# Altium footprint library Capacitors.PcbLib: 6 footprints
Each footprint in its own frame and in the unit in brackets; x right, y up, seen from the top. Pads: shape width x height; smd on the part's side, far side on the other; paste and mask are expansions set on the pad; w line width, h text height; cw(c..) or ccw(c..) is an arc to the next point about the centre after c.
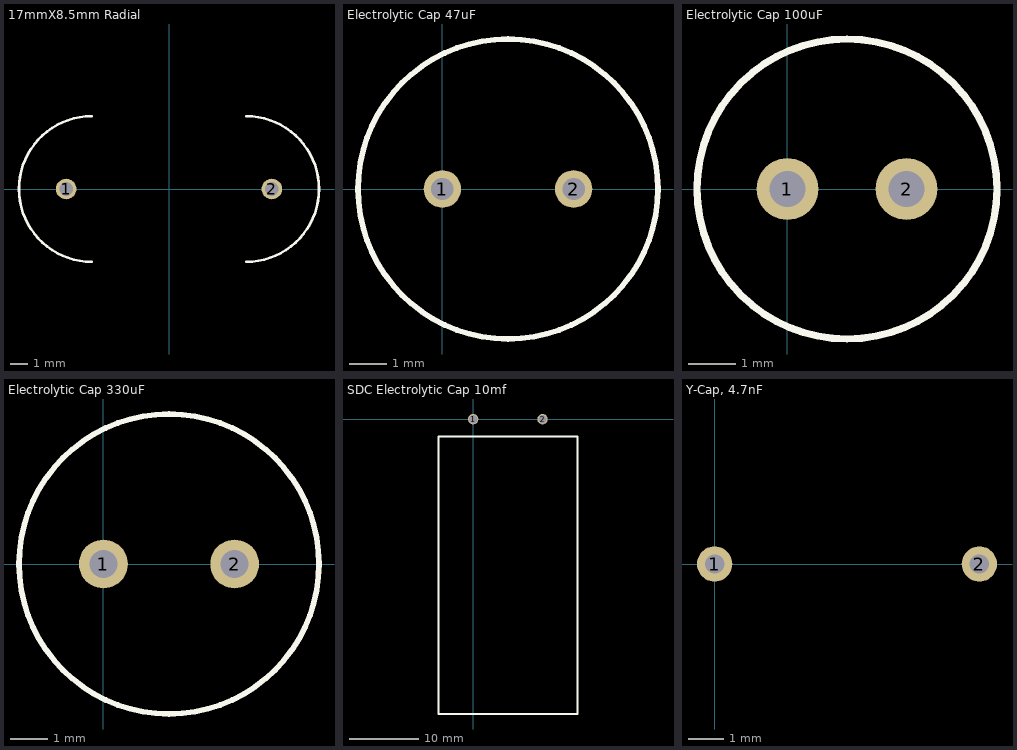
[diagram p0: the footprints below, top view; thin cyan lines are the x and y axes]

## 17mmX8.5mm Radial [mm] "17mmX17mmX8.5mm Lead space 12mm"
height 17
pads (2):
  round 1.2 hole 0.8: 1(-6,0) 2(6,0)
Top Overlay:
  lines w0.15: -4.5,-4.25 cw(c-4.5,0) -4.5,4.25 ; 4.5,-4.25 ccw(c4.5,0) 4.5,4.25
3D body: height 17, standoff 0, extent -8.75,-4.25 8.75,4.25

## Electrolytic Cap 47uF [mm] "Lead Space 3.5mm, Lead Diam .6mm"
pads (2):
  round 1 hole 0.6: 1(0,0) 2(3.5,0)
Top Overlay:
  circle w0.15: c1.75,0 r4
3D body: height 11, standoff 0, extent -2.25,-3.997 5.75,3.997

## Electrolytic Cap 100uF [mm] "Lead Space 2.5mm, Lead Diam .5mm"
pads (2):
  round 1.3 hole 0.75: 1(0,0) 2(2.5,0)
Top Overlay:
  circle w0.15: c1.25,0 r3.15
3D body: height 11.2, standoff 0, extent -1.9,-3.147 4.4,3.147

## Electrolytic Cap 330uF [mm] "Lead Space 3.5mm, Lead Diam .6mm"
pads (2):
  round 1.3 hole 0.75: 1(0,0) 2(3.5,0)
Top Overlay:
  circle w0.15: c1.75,0 r4
3D body: height 11, standoff 0, extent -2.25,-3.997 5.75,3.997

## SDC Electrolytic Cap 10mf [mm]
pads (2):
  round 1.5 hole 1.2: 1(0,0) 2(10,0)
Top Overlay:
  lines w0.254: -4.975,-42.475 -4.975,-2.475 15.025,-2.475 15.025,-42.475 -4.975,-42.475
3D body: height 19.99, standoff 0.01, extent -4.9,-42.5 15.1,-2.5
3D body: height 0.25, standoff 0, extent 5.325,-22.6 5.325,-22.6
3D body: height 0.25, standoff 0, extent 5.2,-21.15 5.2,-21.15

## Y-Cap, 4.7nF [mm] "Lead Space 7.5mm, Lead Diam .55mm"
pads (2):
  round 1 hole 0.55: 1(0,0) 2(7.5,0)